# Altium integrated library CeramicCapacitor22pf_RDE5C2A220J0M1H03A.IntLib: 1 symbol
Pins are listed as number, name and electrical type; pins without a type are passive.

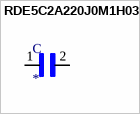
[diagram p0: symbol RDE5C2A220J0M1H03A]

## RDE5C2A220J0M1H03A
designator C
Lead Capacitor C0G_EIA_ with Capacitance: 22pF and Rated Voltage: 100Vdc; MF: Murata; MP: RDE5C2A220J0M1H03A; Availability: Unavailable; Price: None; Package: Radial Murata; Value: *; SnapEDA_Link: https://www.snapeda.com/parts/RDE5C2A220J0M1H03A/Murata/view-part/4545539/?ref=snap
footprint CAP_RDE5C2A220J0M1H03A
pins: 1, 2